# Altium schematic symbol library zq.SchLib: 43 symbols
Pins are listed as number, name and electrical type; pins without a type are passive.

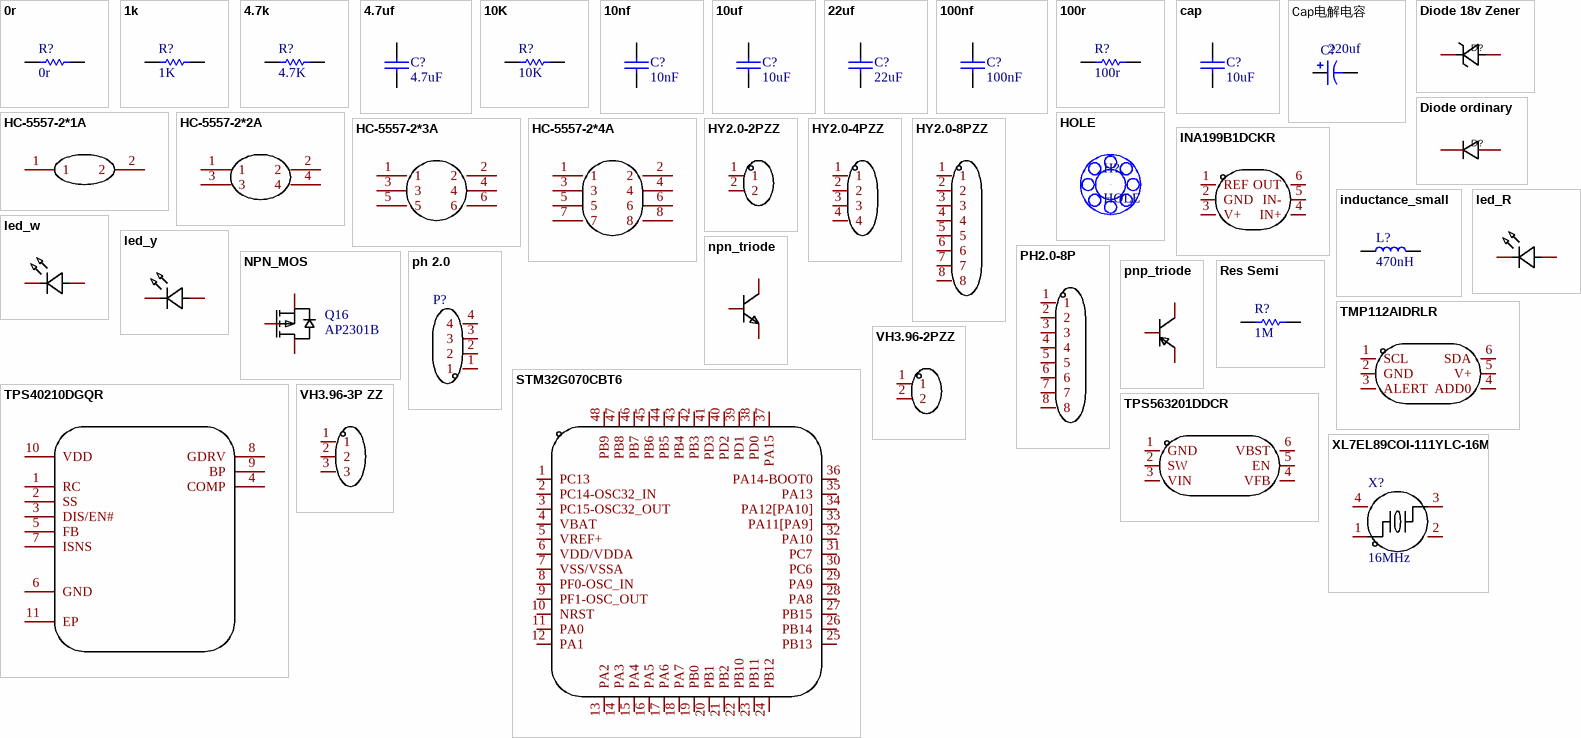
[diagram p0: symbols 0r to XL7EL89COI-111YLC-16M]

## 0r
designator R?, comment value 0r  (hidden comment: 0402WGF0000TCE)
Published: 8-Jun-2000; LatestRevisionDate: 17-Jul-2002; LatestRevisionNote: Re-released for DXP Platform.; PackageReference: 0402; Publisher: Altium Limited; PackageDescription: Axial Device, Thru-Hole; 2 Leads; 0.5 in Pin Spacing
footprint R0201 (Chip Resistor, 2-Leads, Body 0.60x0.30mm, IPC Medium Density)
footprint R0402
footprint R0603
footprint R0805
footprint R1206
footprint R2512 (Chip Resistor, 2-Leads, Body 6.3x3.2mm, IPC Medium Density)
footprint R0612 (Chip Resistor, 2-Leads, Body 1.60x3.20mm, IPC Medium Density)
pins: 1, 2

## 1k
designator R?, comment value 1K  (hidden comment: 0402WGF1001TCE)
Published: 8-Jun-2000; LatestRevisionDate: 17-Jul-2002; LatestRevisionNote: Re-released for DXP Platform.; PackageReference: 0402; Publisher: Altium Limited; PackageDescription: Axial Device, Thru-Hole; 2 Leads; 0.5 in Pin Spacing
footprint R0201 (Chip Resistor, 2-Leads, Body 0.60x0.30mm, IPC Medium Density)
footprint R0402
footprint R0603
footprint R0805
footprint R1206
footprint R2512 (Chip Resistor, 2-Leads, Body 6.3x3.2mm, IPC Medium Density)
footprint R0612 (Chip Resistor, 2-Leads, Body 1.60x3.20mm, IPC Medium Density)
pins: 1, 2

## 4.7k
designator R?, comment value 4.7K  (hidden comment: 0402WGF4701TCE)
Published: 8-Jun-2000; LatestRevisionDate: 17-Jul-2002; LatestRevisionNote: Re-released for DXP Platform.; PackageReference: 0402; Publisher: Altium Limited; PackageDescription: Axial Device, Thru-Hole; 2 Leads; 0.5 in Pin Spacing
footprint R0201 (Chip Resistor, 2-Leads, Body 0.60x0.30mm, IPC Medium Density)
footprint R0402
footprint R0603
footprint R0805
footprint R1206
footprint R2512 (Chip Resistor, 2-Leads, Body 6.3x3.2mm, IPC Medium Density)
footprint R0612 (Chip Resistor, 2-Leads, Body 1.60x3.20mm, IPC Medium Density)
pins: 1, 2

## 4.7uf
designator C?, comment value 4.7uF  (hidden comment: CL05A475MP5NRNC)
Published: 8-Jun-2000; LatestRevisionDate: 17-Jul-2002; LatestRevisionNote: Re-released for DXP Platform.; PackageReference: 0402; Publisher: Altium Limited; PackageDescription: Radial Cap, Thru-Hole; 2 Leads; 0.3 in Pin Spacing
footprint C0201 (Chip Capacitor, 2-Leads, Body 0.60x0.30mm, IPC Medium Density)
footprint C0402
footprint C0603
footprint C0805
footprint C1206
footprint C1210
pins: 1, 2

## 10K
designator R?, comment value 10K  (hidden comment: 0402WGF1002TCE)
Published: 8-Jun-2000; LatestRevisionDate: 17-Jul-2002; LatestRevisionNote: Re-released for DXP Platform.; PackageReference: 0402; Publisher: Altium Limited; PackageDescription: Axial Device, Thru-Hole; 2 Leads; 0.5 in Pin Spacing
footprint R0201 (Chip Resistor, 2-Leads, Body 0.60x0.30mm, IPC Medium Density)
footprint R0402
footprint R0603
footprint R0805
footprint R1206
footprint R2512 (Chip Resistor, 2-Leads, Body 6.3x3.2mm, IPC Medium Density)
footprint R0612 (Chip Resistor, 2-Leads, Body 1.60x3.20mm, IPC Medium Density)
pins: 1, 2

## 10nf
designator C?, comment value 10nF  (hidden comment: CL05B103KB5NNNC)
Published: 8-Jun-2000; LatestRevisionDate: 17-Jul-2002; LatestRevisionNote: Re-released for DXP Platform.; PackageReference: 0402; Publisher: Altium Limited; PackageDescription: Radial Cap, Thru-Hole; 2 Leads; 0.3 in Pin Spacing
footprint C0201 (Chip Capacitor, 2-Leads, Body 0.60x0.30mm, IPC Medium Density)
footprint C0402
footprint C0603
footprint C0805
footprint C1206
footprint C1210
pins: 1, 2

## 10uf
designator C?, comment value 10uF  (hidden comment: CL05A106MQ5NUNC)
Published: 8-Jun-2000; LatestRevisionDate: 17-Jul-2002; LatestRevisionNote: Re-released for DXP Platform.; PackageReference: 0402; Publisher: Altium Limited; PackageDescription: Radial Cap, Thru-Hole; 2 Leads; 0.3 in Pin Spacing
footprint C0201 (Chip Capacitor, 2-Leads, Body 0.60x0.30mm, IPC Medium Density)
footprint C0402
footprint C0603
footprint C0805
footprint C1206
footprint C1210
pins: 1, 2

## 22uf
designator C?, comment value 22uF  (hidden comment: CL10A226MQ8NRNC)
0603 基础; Published: 8-Jun-2000; LatestRevisionDate: 17-Jul-2002; LatestRevisionNote: Re-released for DXP Platform.; PackageReference: 0402; Publisher: Altium Limited; PackageDescription: Radial Cap, Thru-Hole; 2 Leads; 0.3 in Pin Spacing
footprint C0201 (Chip Capacitor, 2-Leads, Body 0.60x0.30mm, IPC Medium Density)
footprint C0402
footprint C0603
footprint C0805
footprint C1206
footprint C1210
pins: 1, 2

## 100nf
designator C?, comment value 100nF  (hidden comment: CL05B104KB54PNC)
Published: 8-Jun-2000; LatestRevisionDate: 17-Jul-2002; LatestRevisionNote: Re-released for DXP Platform.; PackageReference: 0402; Publisher: Altium Limited; PackageDescription: Radial Cap, Thru-Hole; 2 Leads; 0.3 in Pin Spacing
footprint C0201 (Chip Capacitor, 2-Leads, Body 0.60x0.30mm, IPC Medium Density)
footprint C0402
footprint C0603
footprint C0805
footprint C1206
footprint C1210
pins: 1, 2

## 100r
designator R?, comment value 100r  (hidden comment: 0402WGF1000TCE)
Published: 8-Jun-2000; LatestRevisionDate: 17-Jul-2002; LatestRevisionNote: Re-released for DXP Platform.; PackageReference: 0402; Publisher: Altium Limited; PackageDescription: Axial Device, Thru-Hole; 2 Leads; 0.5 in Pin Spacing
footprint R0201 (Chip Resistor, 2-Leads, Body 0.60x0.30mm, IPC Medium Density)
footprint R0402
footprint R0603
footprint R0805
footprint R1206
footprint R2512 (Chip Resistor, 2-Leads, Body 6.3x3.2mm, IPC Medium Density)
footprint R0612 (Chip Resistor, 2-Leads, Body 1.60x3.20mm, IPC Medium Density)
pins: 1, 2

## cap
designator C?, comment value 10uF  (hidden comment: CL05A106MQ5NUNC)
Published: 8-Jun-2000; LatestRevisionDate: 17-Jul-2002; LatestRevisionNote: Re-released for DXP Platform.; PackageReference: 0402; Publisher: Altium Limited; PackageDescription: Radial Cap, Thru-Hole; 2 Leads; 0.3 in Pin Spacing
footprint C0201 (Chip Capacitor, 2-Leads, Body 0.60x0.30mm, IPC Medium Density)
footprint C0402
footprint C0603
footprint C0805
footprint C1206
footprint C1210
pins: 1, 2

## Cap电解电容
designator C?, comment value 220uf  (hidden comment: RVT1E221M0607)
Polarized Capacitor (Axial); Published: 8-Jun-2000; LatestRevisionDate: 17-Jul-2002; LatestRevisionNote: Re-released for DXP Platform.; PackageReference: POLAR0.8; Publisher: Altium Limited; PackageDescription: Polarized Capacitor; 2 Leads
footprint CAP-SMD_BD6.3-L6.6-W6.6-LS7.4-FD
pins: 1, 2
1 alternate drawing of the same symbol

## Diode 18v Zener
designator D?, comment BZT52C18W  (value not drawn)
稳压二极管18v 5mA（击穿以后还能恢复）; Manufacturer: CBI(创基); Add into BOM: yes; Diode Configuration: 独立式; Zener Voltage (Nom): 18V; Reverse Leakage Current (Ir): 100nA@12.6V; Zener Voltage (Range): 16.8V~19.1V; Power Dissipation: 500mW; Zener Impedance (Zzt): 45Ω; Name: BZT52C18W; Symbol: BZT52C18W; Device: BZT52C18W; LCSC Part Name: BZT52C18W; Supplier Part: C2832635; Manufacturer Part: BZT52C18W; Supplier Footprint: SOD-123; JLCPCB Part Class: Extended Part; Datasheet: https://atta.szlcsc.com/upload/public/pdf/source/20210520/C2832619_E5A43A150FDB3A0AFB79B689AFD0C305.pdf; Supplier: LCSC; Convert to PCB: yes
footprint SOD-123_L2.7-W1.6-LS3.8-RD
pins: 1 C, 2 A

## Diode ordinary
designator D?, comment SM4007PL  (value not drawn)
普通二极管 1kv1A; Manufacturer: MDD(辰达半导体); Device: SM4007PL_C64898; Add into BOM: yes; Diode Configuration: 独立式; Forward Voltage (Vf@If): 1.1V@1A; Reverse Voltage (Vr): 1kV; Rectified Current: 1A; Reverse Leakage Current: 10uA@1kV; Name: SM4007PL; Symbol: SM4007PL; LCSC Part Name: 电压:1kV 电流:1A; Supplier Part: C64898; Manufacturer Part: SM4007PL; Supplier Footprint: SOD-123FL; JLCPCB Part Class: Basic Part; Datasheet: https://atta.szlcsc.com/upload/public/pdf/source/20230823/16A8FDE162764C9B685A3717F2DA3690.pdf; Supplier: LCSC; Convert to PCB: yes
footprint SOD-123F_L2.8-W1.8-LS3.7-RD
pins: 1 C, 2 A

## HC-5557-2*1A
designator P?  (value not drawn)
2p; Manufacturer: HCTL(华灿天禄); Add into BOM: yes; Pins Structure: 2x1P; Pitch: 4.2mm; Number of PINs Per Row: 1; Current Rating (Max): 9A; Name: HC-5557-2*1A; Symbol: HC-5557-2*1A; Device: HC-5557-2*1A; LCSC Part Name: 2x1P 间距:4.2mm 直插; Supplier Part: C2845776; Manufacturer Part: HC-5557-2*1A; Supplier Footprint: 插件,P=4.2mm; JLCPCB Part Class: Extended Part; Datasheet: https://atta.szlcsc.com/upload/public/pdf/source/20230620/FF5B1F4AE343F4430EEB0EA0134778E8.pdf; Supplier: LCSC; Convert to PCB: yes; Mounting Style: 直插; Reference Series: -; Number of Pins: 2P; Number of Rows: 2; Row Spacing: 4.2mm; Contact Material: 黄铜; Contact Plating: 锡; Operating Temperature Range: -25℃~+85℃
footprint CONN-TH_HAA420A-2A
pins: 1, 2

## HC-5557-2*2A
designator P?  (value not drawn)
4p; Manufacturer: HCTL(华灿天禄); Add into BOM: yes; Pins Structure: 2x2P; Pitch: 4.2mm; Number of PINs Per Row: 2; Current Rating (Max): 9A; Name: HC-5557-2*2A; Symbol: HC-5557-2*2A; Device: HC-5557-2*2A; LCSC Part Name: 2x2P 间距:4.2mm 直插; Supplier Part: C2845777; Manufacturer Part: HC-5557-2*2A; Supplier Footprint: 插件,P=4.2mm; JLCPCB Part Class: Extended Part; Datasheet: https://atta.szlcsc.com/upload/public/pdf/source/20230620/FF5B1F4AE343F4430EEB0EA0134778E8.pdf; Supplier: LCSC; Convert to PCB: yes; Mounting Style: 直插; Reference Series: -; Number of Pins: 4P; Number of Rows: 2; Row Spacing: 4.2mm; Contact Material: 黄铜; Contact Plating: 锡; Operating Temperature Range: -25℃~+85℃
footprint CONN-TH_HAA420A-4A
pins: 1, 2, 3, 4

## HC-5557-2*3A
designator P?  (value not drawn)
6p; Manufacturer: HCTL(华灿天禄); Add into BOM: yes; Pins Structure: 2x3P; Pitch: 4.2mm; Number of PINs Per Row: 3; Current Rating (Max): 9A; Name: HC-5557-2*3A; Symbol: HC-5557-2*3A; Device: HC-5557-2*3A; LCSC Part Name: 2x3P 间距:4.2mm 直插; Supplier Part: C2845778; Manufacturer Part: HC-5557-2*3A; Supplier Footprint: 插件,P=4.2mm; JLCPCB Part Class: Extended Part; Datasheet: https://atta.szlcsc.com/upload/public/pdf/source/20230620/FF5B1F4AE343F4430EEB0EA0134778E8.pdf; Supplier: LCSC; Convert to PCB: yes; Mounting Style: 直插; Reference Series: -; Number of Pins: 6P; Number of Rows: 2; Row Spacing: 4.2mm; Contact Material: 黄铜; Contact Plating: 锡; Operating Temperature Range: -25℃~+85℃
footprint CONN-TH_HC-5557-2-3A
pins: 1, 2, 3, 4, 5, 6

## HC-5557-2*4A
designator P?  (value not drawn)
8p; Manufacturer: HCTL(华灿天禄); Add into BOM: yes; Pins Structure: 2x4P; Pitch: 4.2mm; Number of PINs Per Row: 4; Current Rating (Max): 9A; Name: HC-5557-2*4A; Symbol: HC-5557-2*4A; Device: HC-5557-2*4A; LCSC Part Name: 2x4P 间距:4.2mm 直插; Supplier Part: C2845779; Manufacturer Part: HC-5557-2*4A; Supplier Footprint: 插件,P=4.2mm; JLCPCB Part Class: Extended Part; Datasheet: https://atta.szlcsc.com/upload/public/pdf/source/20230620/FF5B1F4AE343F4430EEB0EA0134778E8.pdf; Supplier: LCSC; Convert to PCB: yes; Mounting Style: 直插; Reference Series: -; Number of Pins: 8P; Number of Rows: 2; Row Spacing: 4.2mm; Contact Material: 黄铜; Contact Plating: 锡; Operating Temperature Range: -25℃~+85℃
footprint CONN-TH_HAA420A-8A
pins: 1, 2, 3, 4, 5, 6, 7, 8

## HOLE
designator H?
固定孔
footprint HOLE_2.6mm_MUL
footprint HOLE_3.5mm
footprint HOLE_3.5mm_MUL
footprint HOLE_2.1mm_MUL
pins: 1

## HY2.0-2PZZ
designator P?, comment ZX-HY2.0-2PZZ  (value not drawn)
2p; Manufacturer: Megastar(兆星); Add into BOM: yes; Pins Structure: 1x2P; Pitch: 2mm; Reference Series: HY; Number of PINs Per Row: 2; Current Rating (Max): 2A; Name: ZX-HY2.0-2PZZ; Symbol: ZX-HY2.0-2PZZ; Device: ZX-HY2.0-2PZZ; LCSC Part Name: 1x2P 间距:2mm 直插 系列:HY; Supplier Part: C7429578; Manufacturer Part: ZX-HY2.0-2PZZ; Supplier Footprint: 插件,P=2mm; JLCPCB Part Class: Extended Part; Datasheet: https://atta.szlcsc.com/upload/public/pdf/source/20230619/DEC43A5E9BAFB7A5BDB16FEDBE15E2A0.pdf; Supplier: LCSC; Convert to PCB: yes; Mounting Style: 直插; Number of Pins: 2P; Number of Rows: 1; Row Spacing: -; Contact Material: 黄铜; Contact Plating: 锡; Operating Temperature Range: -25℃~+85℃
footprint CONN-TH_2P-P2.00_ZX-HY2.0-2PZZ
pins: 1, 2

## HY2.0-4PZZ
designator P?, comment ZX-HY2.0-4PZZ  (value not drawn)
4p; Manufacturer: Megastar(兆星); Add into BOM: yes; Pins Structure: 1x4P; Pitch: 2mm; Reference Series: HY; Number of PINs Per Row: 4; Current Rating (Max): 2A; Name: ZX-HY2.0-4PZZ; Symbol: ZX-HY2.0-4PZZ; Device: ZX-HY2.0-4PZZ; LCSC Part Name: 1x4P 间距:2mm 直插 系列:HY; Supplier Part: C7429580; Manufacturer Part: ZX-HY2.0-4PZZ; Supplier Footprint: 插件,P=2mm; JLCPCB Part Class: Extended Part; Datasheet: https://atta.szlcsc.com/upload/public/pdf/source/20230619/44026E9B0BFE007E57437F997C730D91.pdf; Supplier: LCSC; Convert to PCB: yes; Mounting Style: 直插; Number of Pins: 4P; Number of Rows: 1; Row Spacing: -; Contact Material: 黄铜; Contact Plating: 锡; Operating Temperature Range: -25℃~+85℃
footprint CONN-TH_4P-P2.00_HX20020-4A_2
pins: 1, 2, 3, 4

## HY2.0-8PZZ
designator P?, comment ZX-HY2.0-8PZZ  (value not drawn)
8p; Manufacturer: XUNPU(讯普); Name: WAFER-HY2.0-8PZZ; Add into BOM: yes; Pins Structure: 1x8P; Pitch: 2mm; Number of PINs Per Row: 8; Current Rating (Max): 2A; Symbol: WAFER-HY2.0-8PZZ; Device: WAFER-HY2.0-8PZZ; LCSC Part Name: HY 2.0mm 1x8P 直插; Supplier Part: C5374801; Manufacturer Part: WAFER-HY2.0-8PZZ; Supplier Footprint: 插件,P=2mm; JLCPCB Part Class: Extended Part; Datasheet: https://atta.szlcsc.com/upload/public/pdf/source/20230314/A8CF2780A87A7684DC65CF26346F87E3.pdf; Supplier: LCSC; Convert to PCB: yes; Mounting Style: 直插; Number of Pins: 8P; Number of Rows: 1; Operating Temperature Range: -25℃~+85℃
footprint HY2.0-8PZZ
pins: 1, 2, 3, 4, 5, 6, 7, 8

## INA199B1DCKR
designator U?, comment INA199B2DCKR  (value not drawn)
电流感应放大器 / B1-50倍 / B2-100倍 / B3_200倍; Manufacturer: TI(德州仪器); Name: INA199B1DCKR; Add into BOM: yes; Supply Voltage: -100mV~26V; Supply Current: 65uA; Symbol: INA199B1DCKR; Device: INA199B1DCKR; LCSC Part Name: INA199B1DCKR; Supplier Part: C398920; Manufacturer Part: INA199B1DCKR; Supplier Footprint: SC-70-6; JLCPCB Part Class: Extended Part; Datasheet: https://www.ti.com/cn/lit/gpn/ina199; Supplier: LCSC; Convert to PCB: yes; Operating Temperature: -40℃~+125℃
footprint SC-70-6_L2.0-W1.3-P0.65-LS2.1-BR
pins: 1 REF, 2 GND, 3 V+, 4 IN+, 5 IN-, 6 OUT

## inductance_small
designator L?  value 470nH  (hidden comment: inductance_small)
电感; PackageReference: 0402
footprint L0402 (Chip Inductor, 2-Leads, Body 1.00x0.50mm, IPC Medium Density)
footprint L0603
footprint L0805
footprint L0201 (Chip Inductor, 2-Leads, Body 0.60x0.30mm, IPC Medium Density)
footprint 0806 (Chip Inductor, 2-Leads, Body 2.00x1.60mm, IPC Medium Density)
footprint L1206
footprint L1210 (Molded Inductor, 2-Leads, Body 3.20x2.50mm, IPC Medium Density)
pins: 1, 2

## led_R
designator D?, comment KT-0603R  (value not drawn)
红 0603 2.3v; Manufacturer: XINGLIGHT(成兴光); Name: XL-1608SURC-06; Add into BOM: yes; Emitted Color: 红色; Power Dissipation: 55mW; Forward Current: 25mA; Dominant Wavelength: 617nm~621nm; Peak Wavelength: 623nm; Lens Color: 无色透明透镜; Viewing Angle: 120°; Mounting Sytle: 正贴; Symbol: XL-1608SURC-06; Device: XL-1608SURC-06; LCSC Part Name: XL-1608SURC-06; Supplier Part: C965799; Manufacturer Part: XL-1608SURC-06; Supplier Footprint: 0603; JLCPCB Part Class: Extended Part; Datasheet: https://atta.szlcsc.com/upload/public/pdf/source/20221102/D860AFDD1CDB02C5A8064103A32707E2.pdf; Supplier: LCSC; Convert to PCB: yes; Color Temperature: -; Operating Temperature: -30℃~+85℃
footprint LED0603-RD_RED
pins: 1 K, 2 A

## led_w
designator D?, comment KT-0603W  (value not drawn)
白 0603 2.3v; Manufacturer: XINGLIGHT(成兴光); Name: XL-1608SURC-06; Add into BOM: yes; Emitted Color: 红色; Power Dissipation: 55mW; Forward Current: 25mA; Dominant Wavelength: 617nm~621nm; Peak Wavelength: 623nm; Lens Color: 无色透明透镜; Viewing Angle: 120°; Mounting Sytle: 正贴; Symbol: XL-1608SURC-06; Device: XL-1608SURC-06; LCSC Part Name: XL-1608SURC-06; Supplier Part: C965799; Manufacturer Part: XL-1608SURC-06; Supplier Footprint: 0603; JLCPCB Part Class: Extended Part; Datasheet: https://atta.szlcsc.com/upload/public/pdf/source/20221102/D860AFDD1CDB02C5A8064103A32707E2.pdf; Supplier: LCSC; Convert to PCB: yes; Color Temperature: -; Operating Temperature: -30℃~+85℃
footprint LED0603-RD_RED
pins: 1 K, 2 A

## led_y
designator D?, comment 19-213/Y2C-CQ2R2L/3T(CY)  (value not drawn)
黄 0603 2.3v; Manufacturer: XINGLIGHT(成兴光); Name: XL-1608SURC-06; Add into BOM: yes; Emitted Color: 红色; Power Dissipation: 55mW; Forward Current: 25mA; Dominant Wavelength: 617nm~621nm; Peak Wavelength: 623nm; Lens Color: 无色透明透镜; Viewing Angle: 120°; Mounting Sytle: 正贴; Symbol: XL-1608SURC-06; Device: XL-1608SURC-06; LCSC Part Name: XL-1608SURC-06; Supplier Part: C965799; Manufacturer Part: XL-1608SURC-06; Supplier Footprint: 0603; JLCPCB Part Class: Extended Part; Datasheet: https://atta.szlcsc.com/upload/public/pdf/source/20221102/D860AFDD1CDB02C5A8064103A32707E2.pdf; Supplier: LCSC; Convert to PCB: yes; Color Temperature: -; Operating Temperature: -30℃~+85℃
footprint LED0603-RD_RED
pins: 1 K, 2 A

## NPN_MOS
designator Q16, comment AP2301B
20V 2A; Manufacturer: ALLPOWER(铨力); Add into BOM: yes; Type: P沟道; Power Dissipation (Pd): 750mW; Drain Source On Resistance (RDS(on)@Vgs,Id): 130mΩ@4.5V,2A; Gate Threshold Voltage (Vgs(th)@Id): 950mV@250uA; Input Capacitance (Ciss@Vds): 210pF@6V; Reverse Transfer Capacitance (Crss@Vds): 27pF@6V; Symbol: AP2301B; Device: AP2301B; LCSC Part Name: P沟道 耐压:20V 电流:2A; Supplier Part: C2763847; Manufacturer Part: AP2301B; Supplier Footprint: SOT-23; JLCPCB Part Class: 扩展库; Datasheet: https://atta.szlcsc.com/upload/public/pdf/source/20210401/C2763847_842F2A0FFE6F1F01F619022F78C12F29.pdf; Supplier: LCSC; Convert to PCB: yes; Drain Source Voltage (Vdss): 20V; Continuous Drain Current (Id): 2A; Total Gate Charge (Qg@Vgs): -; Name: AP2301B
footprint SOT-23-3_L2.9-W1.3-P1.90-LS2.4-TR
footprint DFN-8_L3.3-W3.3-P0.65-BL_WSD20L75DN
pins: 1 S, 2 G, 3 D

## npn_triode
designator Q?, comment SS8050(RANGE:200-350)  (value not drawn)
NPN三极管 高电平导通; Manufacturer: Nexperia(安世); Name: PMBT3904,215; Add into BOM: yes; Transistor Type: NPN; Collector Current (Ic): 200mA; Collector-Emitter Breakdown Voltage (Vceo): 40V; Power Dissipation (Pd): 250mW; DC Current Gain (hFE@Ic,Vce): 100@10mA,1V; Transition Frequency (fT): 300MHz; Collector Cut-Off Current (Icbo): 50nA; Collector-Emitter Saturation Voltage (VCE(sat)@Ic,Ib): 300mV@50mA,5mA; Symbol: PMBT3904,215; Device: PMBT3904,215; LCSC Part Name: NPN 电流:200mA 耐压:40V; Supplier Part: C8667; Manufacturer Part: PMBT3904,215; Supplier Footprint: SOT-23; JLCPCB Part Class: Extended Part; Datasheet: https://atta.szlcsc.com/upload/public/pdf/source/20210520/C8667_82CC4B18F957EC74ED6E8B4E120941E6.pdf; Supplier: LCSC; Convert to PCB: yes; Operating Temperature: -
footprint SOT-23_L2.9-W1.3-P1.90-LS2.4-BR
pins: 1, 2, 3

## PH2.0-8P
designator P?, comment BX-PH2.0-8PZZ  (value not drawn)
8p; Manufacturer: XUNPU(讯普); Name: WAFER-HY2.0-8PZZ; Add into BOM: yes; Pins Structure: 1x8P; Pitch: 2mm; Number of PINs Per Row: 8; Current Rating (Max): 2A; Symbol: WAFER-HY2.0-8PZZ; Device: WAFER-HY2.0-8PZZ; LCSC Part Name: HY 2.0mm 1x8P 直插; Supplier Part: C5374801; Manufacturer Part: WAFER-HY2.0-8PZZ; Supplier Footprint: 插件,P=2mm; JLCPCB Part Class: Extended Part; Datasheet: https://atta.szlcsc.com/upload/public/pdf/source/20230314/A8CF2780A87A7684DC65CF26346F87E3.pdf; Supplier: LCSC; Convert to PCB: yes; Mounting Style: 直插; Number of Pins: 8P; Number of Rows: 1; Operating Temperature Range: -25℃~+85℃
footprint CONN-TH_8P-P2.00_BX-PH2.0-8PZZ
pins: 1, 2, 3, 4, 5, 6, 7, 8

## ph 2.0
designator P?, comment YTC-HAA200A-4A  (value not drawn)
4p; Manufacturer: YIYUAN(怡远); Add into BOM: yes; Pins Structure: 1x4P; Pitch: 2mm; Reference Series: PH; Number of PINs Per Row: 4; Symbol: YTC-HAA200A-4A; Device: YTC-HAA200A-4A; LCSC Part Name: PH 2mm 1x4P 直插; Supplier Part: C7436587; Manufacturer Part: YTC-HAA200A-4A; Supplier Footprint: P=2mm; JLCPCB Part Class: 扩展库; Datasheet: https://atta.szlcsc.com/upload/public/pdf/source/20230703/47BD96E2CA2DAFF1FC28F108D442EB09.pdf; Supplier: LCSC; Convert to PCB: yes; Mounting Style: 直插; Number of Pins: 4P; Number of Rows: 1; Name: YTC-HAA200A-4A
footprint CONN-TH_4P-P2.00_HCTL_HC-PH-4A-X
pins: 1, 2, 3, 4

## pnp_triode
designator Q?, comment SS8550 Y2(RANGE:200-350)  (value not drawn)
PNP三极管 低电平导通; Manufacturer: CJ(江苏长电/长晶); Symbol: SS8550_C8542; Add into BOM: yes; Transistor Type: PNP; Collector Current (Ic): 1.5A; Collector-Emitter Breakdown Voltage (Vceo): 25V; Power Dissipation (Pd): 300mW; DC Current Gain (hFE@Ic,Vce): 200@100mA,1V; Transition Frequency (fT): 100MHz; Collector Cut-Off Current (Icbo): 100nA; Collector-Emitter Saturation Voltage (VCE(sat)@Ic,Ib): 500mV@800mA,80mA; Name: SS8550 Y2; Device: SS8550 Y2; LCSC Part Name: SS8550 Y2(RANGE:200-350) hfe=200~350; Supplier Part: C8542; Manufacturer Part: SS8550 Y2; Supplier Footprint: SOT-23; JLCPCB Part Class: Basic Part; Datasheet: https://atta.szlcsc.com/upload/public/pdf/source/20140809/1457707214734.pdf; Supplier: LCSC; Convert to PCB: yes; Operating Temperature: -
footprint SOT-23_L2.9-W1.3-P1.90-LS2.4-BR
pins: 1 B, 2 E, 3 C

## Res Semi
designator R?  value 1M  (hidden comment: Res Semi)
Published: 8-Jun-2000; LatestRevisionDate: 17-Jul-2002; LatestRevisionNote: Re-released for DXP Platform.; PackageReference: 0402; Publisher: Altium Limited; PackageDescription: Axial Device, Thru-Hole; 2 Leads; 0.5 in Pin Spacing
footprint R0201 (Chip Resistor, 2-Leads, Body 0.60x0.30mm, IPC Medium Density)
footprint R0402
footprint R0603
footprint R0805
footprint R1206
footprint R2512 (Chip Resistor, 2-Leads, Body 6.3x3.2mm, IPC Medium Density)
footprint R0612 (Chip Resistor, 2-Leads, Body 1.60x3.20mm, IPC Medium Density)
pins: 1, 2

## STM32G070CBT6
designator U?  (value not drawn)
Manufacturer: ST(意法半导体); Add into BOM: yes; Program Storage Size: 128KB; RAM Size: 36KB; CPU Maximum Speed: 64MHz; Program Memory Type: FLASH; Name: STM32G070CBT6; Symbol: STM32G070CBT6; Device: STM32G070CBT6; LCSC Part Name: 主流超值系列Arm Cortex-M0+ MCU，具有128 KB Flash存储器、36 KB RAM、64 MHz CPU、4x USART、定时器、ADC和通信接口，2-3.6V; Supplier Part: C529338; Manufacturer Part: STM32G070CBT6; Supplier Footprint: LQFP-48(7x7); JLCPCB Part Class: Extended Part; Datasheet: https://atta.szlcsc.com/upload/public/pdf/source/20200511/C529338_48C8B1D333BC51E6E9668757AAD26A84.pdf; Supplier: LCSC; Convert to PCB: yes; CPU Core: -; GPIO Ports Number: -; Operating Voltage Range: -; ADC (Bit): -; DAC (Bit): -; PWM (Bit): -; Universal Serial Bus: -; Internal Comparator: -; communication protocol: -; Watchdog: -; Real-Time Clock: -; Infrared Data Association: -; Low-Voltage Detect: -; CCP Capture/Compare: -; Secure Digital Input and Output: -; Direct Memory Access: -; Internal Oscillator: -
footprint LQFP-48_L7.0-W7.0-P0.50-LS9.0-BL
pins: 1 PC13, 2 PC14-OSC32_IN, 3 PC15-OSC32_OUT, 4 VBAT, 5 VREF+, 6 VDD/VDDA, 7 VSS/VSSA, 8 PF0-OSC_IN, 9 PF1-OSC_OUT, 10 NRST, 11 PA0, 12 PA1, 13 PA2, 14 PA3, 15 PA4, 16 PA5, 17 PA6, 18 PA7, 19 PB0, 20 PB1, 21 PB2, 22 PB10, 23 PB11, 24 PB12, 25 PB13, 26 PB14, 27 PB15, 28 PA8, 29 PA9, 30 PC6, 31 PC7, 32 PA10, 33 PA11[PA9], 34 PA12[PA10], 35 PA13, 36 PA14-BOOT0, 37 PA15, 38 PD0, 39 PD1, 40 PD2, 41 PD3, 42 PB3, 43 PB4, 44 PB5, 45 PB6, 46 PB7, 47 PB8, 48 PB9

## TMP112AIDRLR
designator U?  (value not drawn)
温度传感器; Manufacturer: UMW(友台半导体); Symbol: TMP112AIDRLR_C3019122; Add into BOM: yes; Supply Voltage: 1.4V~5.5V; Name: TMP112AIDRLR; Device: TMP112AIDRLR_C3019122; LCSC Part Name: TMP112AIDRLR; Supplier Part: C3019122; Manufacturer Part: TMP112AIDRLR; Supplier Footprint: SOT-563; JLCPCB Part Class: Extended Part; Datasheet: https://atta.szlcsc.com/upload/public/pdf/source/20231109/A719DECFDE63E3CAFA3142F9A44FF492.pdf; Supplier: LCSC; Convert to PCB: yes
footprint SOT-563_L1.6-W1.2-P0.50-LS1.6-BR
pins: 1 SCL, 2 GND, 3 ALERT, 4 ADD0, 5 V+, 6 SDA

## TPS40210DGQR
designator U?  (value not drawn)
升压反激sepic 4.5到52v输入; Manufacturer: TI(德州仪器); Add into BOM: yes; Function: 升压型；升降压型; Input Voltage: 4.5V~52V; Output Current (Max): 6A; Switching Frequency: 1MHz; Synchronous Rectification: 否; Number of Outputs: 1; Topology: SEPIC；升压式；反激式; Name: TPS40210DGQR; Symbol: TPS40210DGQR; Device: TPS40210DGQR; LCSC Part Name: TPS40210DGQR; Supplier Part: C14728; Manufacturer Part: TPS40210DGQR; Supplier Footprint: MSOP-10-EP; JLCPCB Part Class: Extended Part; Datasheet: https://www.ti.com/cn/lit/gpn/tps40210; Supplier: LCSC; Convert to PCB: yes; Operating Temperature: -40℃~+125℃@(TJ)
footprint MSOP-10_L3.0-W3.0-P0.50-LS5.0-BL-EP
pins: 1 RC, 2 SS, 3 DIS/EN#, 4 COMP, 5 FB, 6 GND, 7 ISNS, 8 GDRV, 9 BP, 10 VDD, 11 EP

## TPS563201DDCR
designator U?  (value not drawn)
Manufacturer: TI(德州仪器); Add into BOM: yes; Function: 降压型; Output Type: 可调; Input Voltage: 4.5V~17V; Output Voltage: 768mV~7V; Output Current (Max): 3A; Switching Frequency: 580kHz; Synchronous Rectification: 是; Number of Outputs: 1; Topology: 降压式; Switch tube (built-in/external): 内置; Name: TPS563201DDCR; Symbol: TPS563201DDCR; Device: TPS563201DDCR; LCSC Part Name: TPS563201DDCR; Supplier Part: C116592; Manufacturer Part: TPS563201DDCR; Supplier Footprint: TSOT-23-6; JLCPCB Part Class: Extended Part; Datasheet: https://atta.szlcsc.com/upload/public/pdf/source/20230424/FEEFD13F14AFA838E4C009B2DDC1DFA0.pdf; Supplier: LCSC; Convert to PCB: yes; Operating Temperature: -40℃~+125℃@(TJ)
footprint SOT-23-6_L2.9-W1.6-P0.95-LS2.8-BL
pins: 1 GND, 2 SW, 3 VIN, 4 VFB, 5 EN, 6 VBST

## VH3.96-2PZZ
designator p?, comment ZX-VH3.96-2PZZ  (value not drawn)
2p; Manufacturer: Megastar(兆星); Add into BOM: yes; Pins Structure: 1x2P; Pitch: 3.96mm; Reference Series: VH; Number of PINs Per Row: 2; Current Rating (Max): 3A; Symbol: ZX-VH3.96-2PZZ; Device: ZX-VH3.96-2PZZ; LCSC Part Name: ZX-VH3.96-2PZZ; Supplier Part: C7429660; Manufacturer Part: ZX-VH3.96-2PZZ; Supplier Footprint: 插件,P=3.96mm; JLCPCB Part Class: Extended Part; Datasheet: https://atta.szlcsc.com/upload/public/pdf/source/20230619/B0F65C0388219DF8CB89B38B943D83C5.pdf; Supplier: LCSC; Convert to PCB: yes; Mounting Style: 直插; Number of Pins: 2P; Number of Rows: 1; Row Spacing: -; Contact Material: 黄铜; Contact Plating: 锡; Operating Temperature Range: -25℃~+85℃
footprint CONN-TH_2P-P3.96_MEGASTAR_ZX-VH3.96-2PZZ
pins: 1, 2

## VH3.96-3P ZZ
designator p?, comment ZX-VH3.96-3PZZ  (value not drawn)
3p; Manufacturer: SHOU HAN(首韩); Add into BOM: yes; Pins Structure: 1x3P; Pitch: 3.96mm; Reference Series: VH; Number of PINs Per Row: 3; Current Rating (Max): 7A; Symbol: VH3.96-3P ZZ; Device: VH3.96-3P ZZ; LCSC Part Name: 1x3P 间距:3.96mm 直插 系列:VH; Supplier Part: C5379869; Manufacturer Part: VH3.96-3P ZZ; Supplier Footprint: 插件,P=3.96mm; JLCPCB Part Class: Extended Part; Datasheet: https://atta.szlcsc.com/upload/public/pdf/source/20230323/0E3E4D4D36660133C8ECF6E8E2FE008C.pdf; Supplier: LCSC; Convert to PCB: yes; Mounting Style: 直插; Number of Pins: 3P; Number of Rows: 1; Row Spacing: 3.96mm; Contact Material: 黄铜; Contact Plating: 锡; Operating Temperature Range: -25℃~+85℃
footprint CONN-TH_3P-P3.96_FWF39601-S03S22W1B
pins: 1, 2, 3

## XL7EL89COI-111YLC-16M
designator X?, comment Name: 16MHz  (hidden comment: X322516MLB4SI)
晶振（大封装）; Manufacturer: YXC(扬兴晶振); Symbol: XL7EL89COI-111YLC-16M; Add into BOM: yes; Crystal Type: 贴片晶振; Value: 16MHz; Normal temperature Frequency Tolerance: ±10ppm; External load capacitor: 12pF; Frequency Stability(Full temperature range): ±20ppm; Device: XL7EL89COI-111YLC-16M; LCSC Part Name: 16MHz ±10ppm 12pF; Supplier Part: C2965579; Manufacturer Part: XL7EL89COI-111YLC-16M; Supplier Footprint: SMD2016-4P; JLCPCB Part Class: 扩展库; Datasheet: https://atta.szlcsc.com/upload/public/pdf/source/20240329/C26C9A15A73CBCFBF373B30A8E126750.pdf; Supplier: LCSC; Convert to PCB: yes; Equivalent Series Resistance (ESR): -; Operating Temperature: -40℃~+85℃
footprint CRYSTAL-SMD_4P-L3.2-W2.5-BL
pins: 1, 2 GND, 3, 4 GND

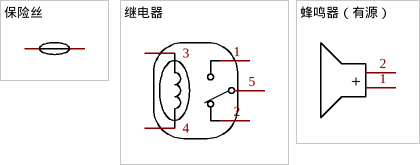
[diagram p1: symbols 保险丝 to 蜂鸣器（有源）]

## 保险丝
designator R?, comment BSMD2920-600-16V  (value not drawn)
自恢复保险丝 6A 16V; Manufacturer: BHFUSE(佰宏); Add into BOM: yes; Current Rating (Max): 40A; Trip Current: 12A; Power Dissipation: 2W; Resistance - Initial (Ri) (Min): 4mΩ; Resistance - Post Trip (R1) (Max): 20mΩ; Maximum Time to Trip: 6s; Name: BSMD2920-600-16V; Symbol: BSMD2920-600-16V; Device: BSMD2920-600-16V; LCSC Part Name: 2920 6A 16V 佰宏大电流; Supplier Part: C910847; Manufacturer Part: BSMD2920-600-16V; Supplier Footprint: 2920; JLCPCB Part Class: Extended Part; Datasheet: https://atta.szlcsc.com/upload/public/pdf/source/20230512/D022CCFE0A7F15633C929F419B252442.pdf; Supplier: LCSC; Convert to PCB: yes; Operating Voltage (Max): 16V; Hold Current: 6A; Operating Temperature: -40℃~+85℃
footprint F2920
pins: 1, 2

## 继电器
designator K?, comment SRA-12VDC-CL  (value not drawn)
12v; Manufacturer: 松乐; Add into BOM: yes; Contact Form: 一组转换:1C(单刀双掷-转换); Pin Number: 5; Maximum Switching Voltage: 125V@AC; Coil Rated Power: 600mW; Maximum Switching Current: 10A; Coil Type: 无极性-单线圈; Coil Resistance: 240Ω; Contact Resistance: 100mΩ; Operate Time: 10ms; Symbol: SRA-12VDC-CL; Device: SRA-12VDC-CL; LCSC Part Name: 黑色; Supplier Part: C60169; Manufacturer Part: SRA-12VDC-CL; Supplier Footprint: 插件,12.4x16mm; JLCPCB Part Class: Extended Part; Datasheet: https://atta.szlcsc.com/upload/public/pdf/source/20180525/C99666_083B3C24D5AD4D7A00C20E2707DD072C.pdf; Supplier: LCSC; Convert to PCB: yes; Coil Voltage: 12V; Contact Rating: -; Release Time: 10ms; Operating Temperature: -40℃~+85℃
footprint RELAY-TH_SRA-X-CX
pins: 1, 2, 3, 4, 5

## 蜂鸣器（有源）
designator BUZZER?, comment HNB09A03  (value not drawn)
Manufacturer: 华能; Name: 3kHz; Add into BOM: yes; Oscillator Circuit: 有源(内含驱动线路); Technology Type: 电磁式; Operating Voltage: 1.5V~4.5V; Value: 3kHz; Current Consumption: 30mA; Sound Pressure Level (SPL): 85dB@10cm; Symbol: HNB09A03; Device: HNB09A03; LCSC Part Name: 电磁式有源一体蜂鸣器HNB09A03; Supplier Part: C96102; Manufacturer Part: HNB09A03; Supplier Footprint: 插件,D=9mm; JLCPCB Part Class: Extended Part; Datasheet: https://atta.szlcsc.com/upload/public/pdf/source/20170522/1495448326172.pdf; Supplier: LCSC; Convert to PCB: yes; Diameter (φD): 9mm; Length: -; Width: -; Height: 5.5mm; Operating Temperature: -20℃~+70℃
footprint BUZ-TH_BD9.0-P5.00-D0.6-FD
pins: 1 +, 2 -